# Altium footprint library kia431amz.PcbLib: 1 footprints
Each footprint in its own frame and in the unit in brackets; x right, y up, seen from the top. Pads: shape width x height; smd on the part's side, far side on the other; paste and mask are expansions set on the pad; w line width, h text height; cw(c..) or ccw(c..) is an arc to the next point about the centre after c.
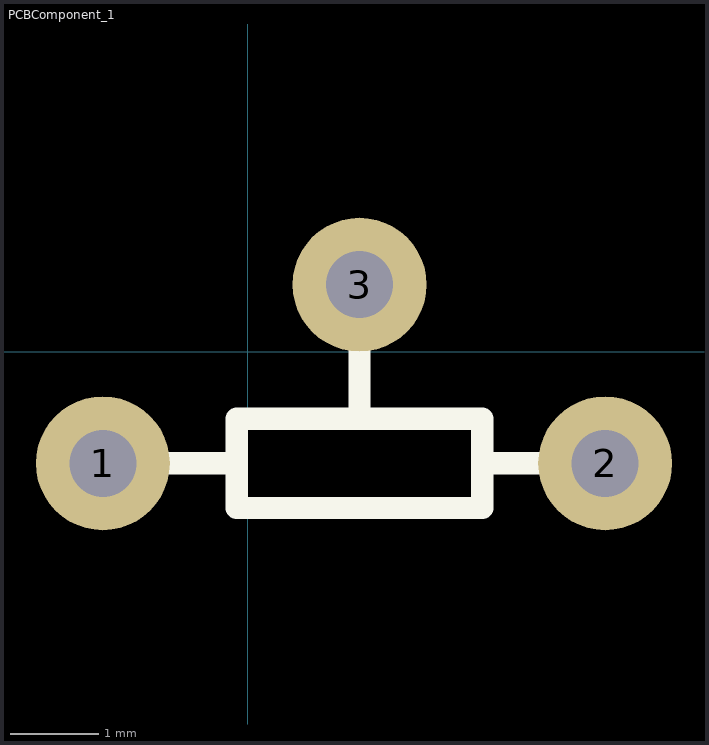
[diagram p0: the footprint, top view; thin cyan lines are the x and y axes]

## PCBComponent_1 [mil]
pads (3):
  round 60 hole 30: 1(-65,-50) 2(160,-50) 3(50,30)
Top Overlay:
  lines w10: -65,-50 -5,-50 ; 50,-30 50,30 ; 105,-50 160,-50 ; -5,-70 105,-70 105,-30 -5,-30 -5,-70